# EAGLE library part KP236N6165 (library exoteric-analytics-custom)
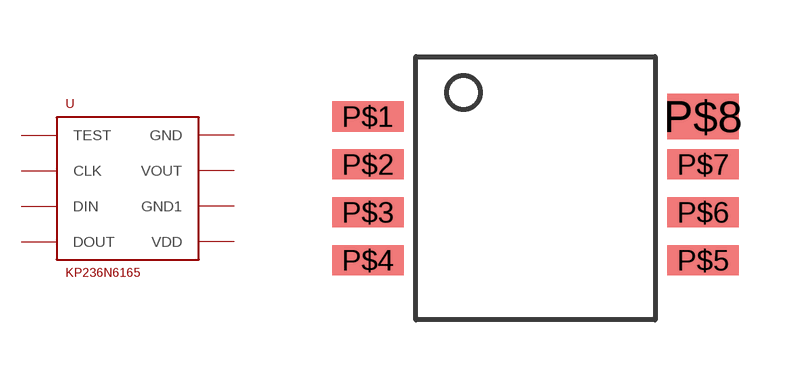
[diagram p7: symbol with the pads of PG-DSOF-8-16; footprint PG-DSOF-8-16]

Designator prefix U

## KP236N6165  [PG-DSOF-8-16]
P$1  TEST  nc
P$2  CLK  nc
P$3  DIN  nc
P$4  DOUT  nc
P$5  VDD
P$6  GND1  pwr
P$7  VOUT  out
P$8  GND  pwr

## Footprint PG-DSOF-8-16 (pad centres in mm)
smd 1.9 x 0.8: P$1 -4.445,1.905; P$2 -4.445,0.635; P$3 -4.445,-0.635; P$4 -4.445,-1.905; P$5 4.445,-1.905; P$6 4.445,-0.635; P$7 4.445,0.635
smd 1.9 x 1.2: P$8 4.445,1.905